# Altium schematic symbol library RES_1206.SchLib: 1 symbol
Pins are listed as number, name and electrical type; pins without a type are passive.

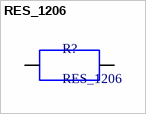
[diagram p0: symbol RES_1206]

## RES_1206
designator R?
Resistor SMD 1206 Generic; Manufacturer: YAGEO; Manufacturer Part Number: AC1206FR-07390KL; Tolerance: 1%; Resistance: 390 kOhm; LCSC Part Number: C229586
pins: 7, 8